# EAGLE library part 93LC56B (library icnh3)
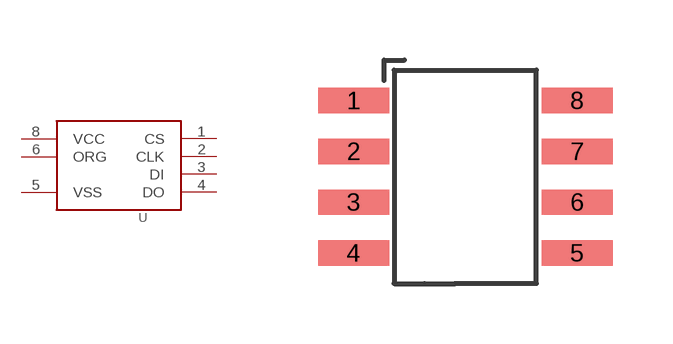
[diagram p8: symbol with the pads of SO8; footprint SO8]

Designator prefix U

## 93LC56B  [SO8]
1  CS
2  CLK
3  DI
4  DO
5  VSS
6  ORG
8  VCC

## Footprint SO8 (pad centres in mm)
smd 1.778 x 0.635: 1 -2.54,2.54; 2 -2.54,1.27; 3 -2.54,0; 4 -2.54,-1.27; 5 3.048,-1.27; 6 3.048,0; 7 3.048,1.27; 8 3.048,2.54